# Altium footprint library thyristor_S4X8TS1RP.PcbLib: 1 footprints
Each footprint in its own frame and in the unit in brackets; x right, y up, seen from the top. Pads: shape width x height; smd on the part's side, far side on the other; paste and mask are expansions set on the pad; w line width, h text height; cw(c..) or ccw(c..) is an arc to the next point about the centre after c.
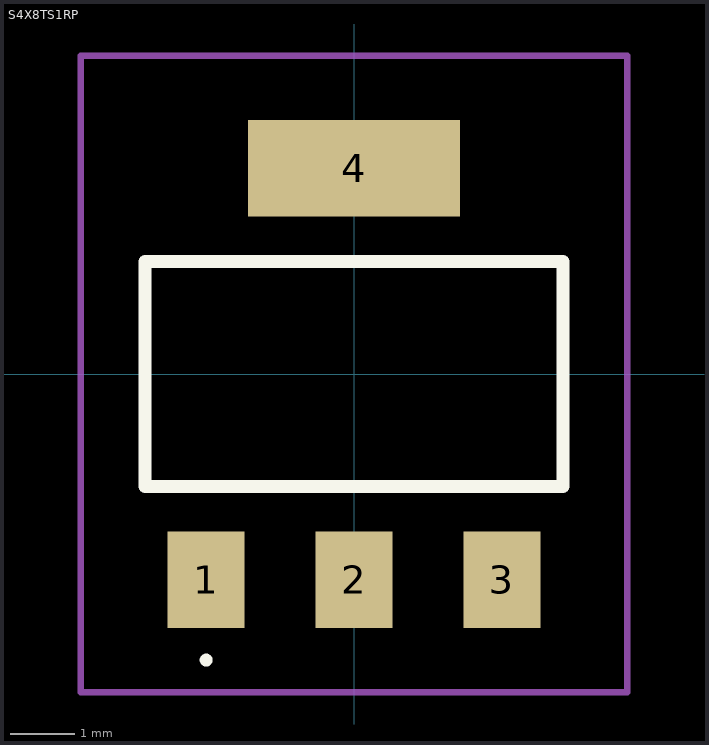
[diagram p0: the footprint, top view; thin cyan lines are the x and y axes]

## S4X8TS1RP [mm]
pads (4):
  rect 1.2x1.5 smd: 1(-2.3,-3.2) 2(0,-3.2) 3(2.3,-3.2)
  rect 3.3x1.5 smd: 4(0,3.2)
Top Overlay:
  lines w0.1: -2.3,-4.5 ccw(c-2.3,-4.45) -2.3,-4.4 ccw(c-2.3,-4.45) -2.3,-4.5
  lines w0.2: -3.25,-1.75 -3.25,1.75 3.25,1.75 3.25,-1.75 -3.25,-1.75
Mechanical 15:
  lines w0.1: -3.25,-1.75 -3.25,1.75 3.25,1.75 3.25,-1.75 -3.25,-1.75
Mechanical 20:
  lines w0.1: -4.25,-4.95 -4.25,4.95 4.25,4.95 4.25,-4.95 -4.25,-4.95